# EAGLE library part NTG4167CT1G (library Synapseware)
NTGD4167C Power MOSFET Complementary, 30 V, +2.9/−2.2 A, TSOP−6 Dual
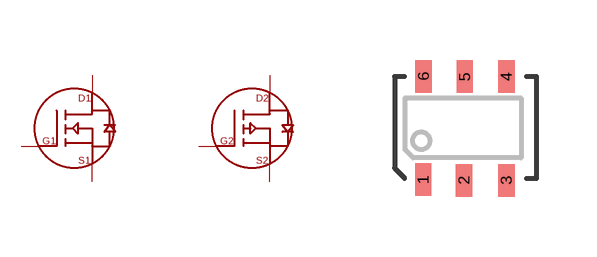
[diagram p11: symbol with the pads of TSOT-6; footprint TSOT-6]

Designator prefix -

## NTG4167CT1G  [TSOT-6]
1  G1
2  S2
3  G2
4  D2
5  S1
6  D1

## Footprint TSOT-6 (pad centres in mm)
TSOT-6
smd 0.406 x 0.813: 1 -1.06,-1.3; 2 -0.04,-1.32; 3 1.02,-1.32; 4 1.02,1.27; 5 -0.02,1.27; 6 -1.05,1.28